# Altium schematic symbol library CAP0402.SchLib: 1 symbol
Pins are listed as number, name and electrical type; pins without a type are passive.

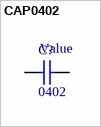
[diagram p0: symbol CAP0402]

## CAP0402
designator C?, comment 0402
0402 capacitor; Value: Value
footprint CAP0402R (Capacitor 0402 reflow soldering)
simulation model CAP (Capacitor)
signal-integrity model Cap
pins: 1, 2